# EAGLE library part TLP281-4 (library doz)
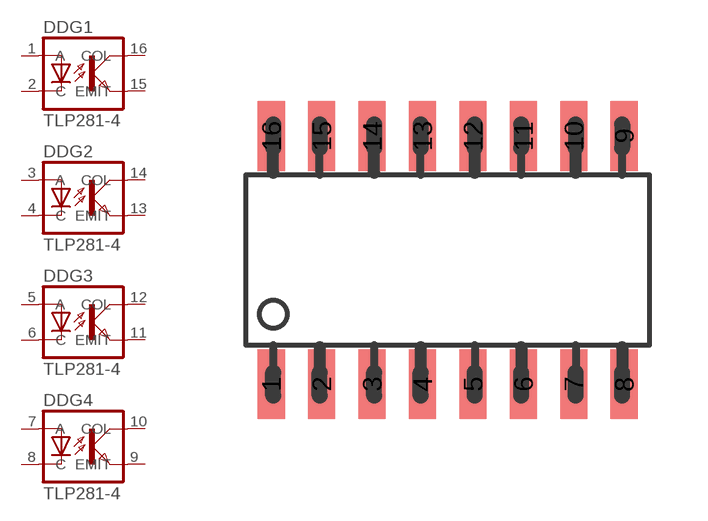
[diagram p26: symbol with the pads of TLP281-4; footprint TLP281-4]

Designator prefix DD; gates G1=OPTO-OK G2=OPTO-OK G3=OPTO-OK G4=OPTO-OK

## TLP281-4  [TLP281-4]
1  G1:A  pas
2  G1:C  pas
3  G2:A  pas
4  G2:C  pas
5  G3:A  pas
6  G3:C  pas
7  G4:A  pas
8  G4:C  pas
9  G4:EMIT  pas
10  G4:COL  pas
11  G3:EMIT  pas
12  G3:COL  pas
13  G2:EMIT  pas
14  G2:COL  pas
15  G1:EMIT  pas
16  G1:COL  pas

## Footprint TLP281-4 (pad centres in mm)
smd 0.7 x 1.8: 1 -0.65,-3.4; 2 0.65,-3.4; 3 1.95,-3.4; 4 3.25,-3.4; 5 4.55,-3.4; 6 5.85,-3.4; 7 7.15,-3.4; 8 8.45,-3.4; 9 8.45,3; 10 7.15,3; 11 5.85,3; 12 4.55,3; 13 3.25,3; 14 1.95,3; 15 0.65,3; 16 -0.65,3